# Altium schematic symbol library IS66WVH8M8BLL-100B1LI-TR.SchLib: 1 symbol
Pins are listed as number, name and electrical type; pins without a type are passive.

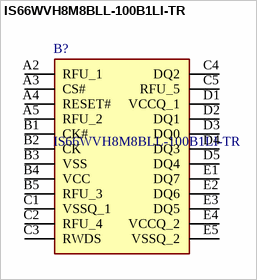
[diagram p0: symbol IS66WVH8M8BLL-100B1LI-TR]

## IS66WVH8M8BLL-100B1LI-TR
designator B?
INTEGRATED SILICON SOLUTION (ISSI) - IS66WVH8M8BLL-100B1LI-TR - 64MB, HYPERRAM, 8MBX8, 3.0V, 100MHZ, 24-BALL TFBGA, ROHS; Manufacturer_Name: Integrated Silicon Solution Inc.; Geometry.Height: 1.2mm; Manufacturer_Part_Number: IS66WVH8M8BLL-100B1LI-TR; Mouser Part Number: 870-WVH8M8BL100B1LIT; Mouser Price/Stock: https://www.mouser.co.uk/ProductDetail/ISSI/IS66WVH8M8BLL-100B1LI-TR?qs=o7k0yqUNuKC2m%2FgRS%252BFBsQ%3D%3D; Arrow Part Number: IS66WVH8M8BLL-100B1LI-TR; Arrow Price/Stock: https://www.arrow.com/en/products/is66wvh8m8bll-100b1li-tr/integrated-silicon-solution-inc?region=nac; Datasheet Link: https://www.arrow.com/en/products/is66wvh8m8bll-100b1li-tr/integrated-silicon-solution-inc
footprint BGA24C100P5X5_600X800X120
pins: A2 RFU_1, A3 CS#, A4 RESET#, A5 RFU_2, B1 CK#, B2 CK, B3 VSS, B4 VCC, B5 RFU_3, C1 VSSQ_1, C2 RFU_4, C3 RWDS, C4 DQ2, C5 RFU_5, D1 VCCQ_1, D2 DQ1, D3 DQ0, D4 DQ3, D5 DQ4, E1 DQ7, E2 DQ6, E3 DQ5, E4 VCCQ_2, E5 VSSQ_2